# Altium integrated library PEC12R-4130F-S0012.IntLib: 1 symbol
Pins are listed as number, name and electrical type; pins without a type are passive.

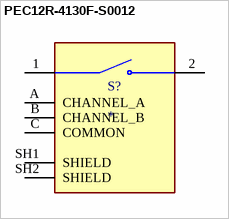
[diagram p0: symbol PEC12R-4130F-S0012]

## PEC12R-4130F-S0012
designator S?
ENCODER | Bourns PEC12R-4130F-S0012; MF: Bourns Inc.; SnapEDA_Link: https://www.snapeda.com/parts/PEC12R-4130F-S0012/Bourns/view-part/?ref=snap; Package: None; Value: *; MP: PEC12R-4130F-S0012; Check_prices: https://www.snapeda.com/parts/PEC12R-4130F-S0012/Bourns/view-part/?ref=eda
footprint XDCR_PEC12R-4130F-S0012
pins: 1, 2, A CHANNEL_A, B CHANNEL_B, C COMMON, SH1 SHIELD, SH2 SHIELD